# EAGLE library part PWR_EFUSE_TPS25981X (library !GPLIB_ACTIVE)
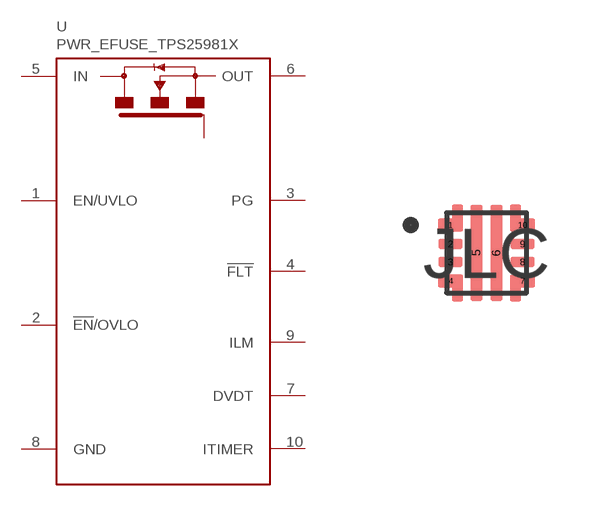
[diagram p134: symbol with the pads of VQFN_10P(2X2); footprint VQFN_10P(2X2)]

Designator prefix U

## PWR_EFUSE_TPS25981X_TPS259814ARPWR  [VQFN_10P(2X2)]
1  EN/UVLO  in
2  !EN!/OVLO  in
3  PG  out
4  !FLT  out
5  IN  pwr
6  OUT  pwr
7  DVDT  out
8  GND  pwr
9  ILM  out
10  ITIMER  out

## Footprint VQFN_10P(2X2) (pad centres in mm)
RPW (VQFN-HR, 10) 2.00 mm × 2.00 mm
smd 0.3 x 0.2: 1 -0.9,0.7; 4 -0.9,-0.7; 7 0.9,-0.7; 10 0.9,0.7
smd 0.6 x 0.25: 2 -0.9,0.225; 3 -0.9,-0.225; 8 0.9,-0.225; 9 0.9,0.225
smd 0.3 x 2.4: 5 -0.25,0; 6 0.25,0